# Altium footprint library JMPKG.PcbLib: 337 footprints (part 15 of 22)
Each footprint in its own frame and in the unit in brackets; x right, y up, seen from the top. Pads: shape width x height; smd on the part's side, far side on the other; paste and mask are expansions set on the pad; w line width, h text height; cw(c..) or ccw(c..) is an arc to the next point about the centre after c.
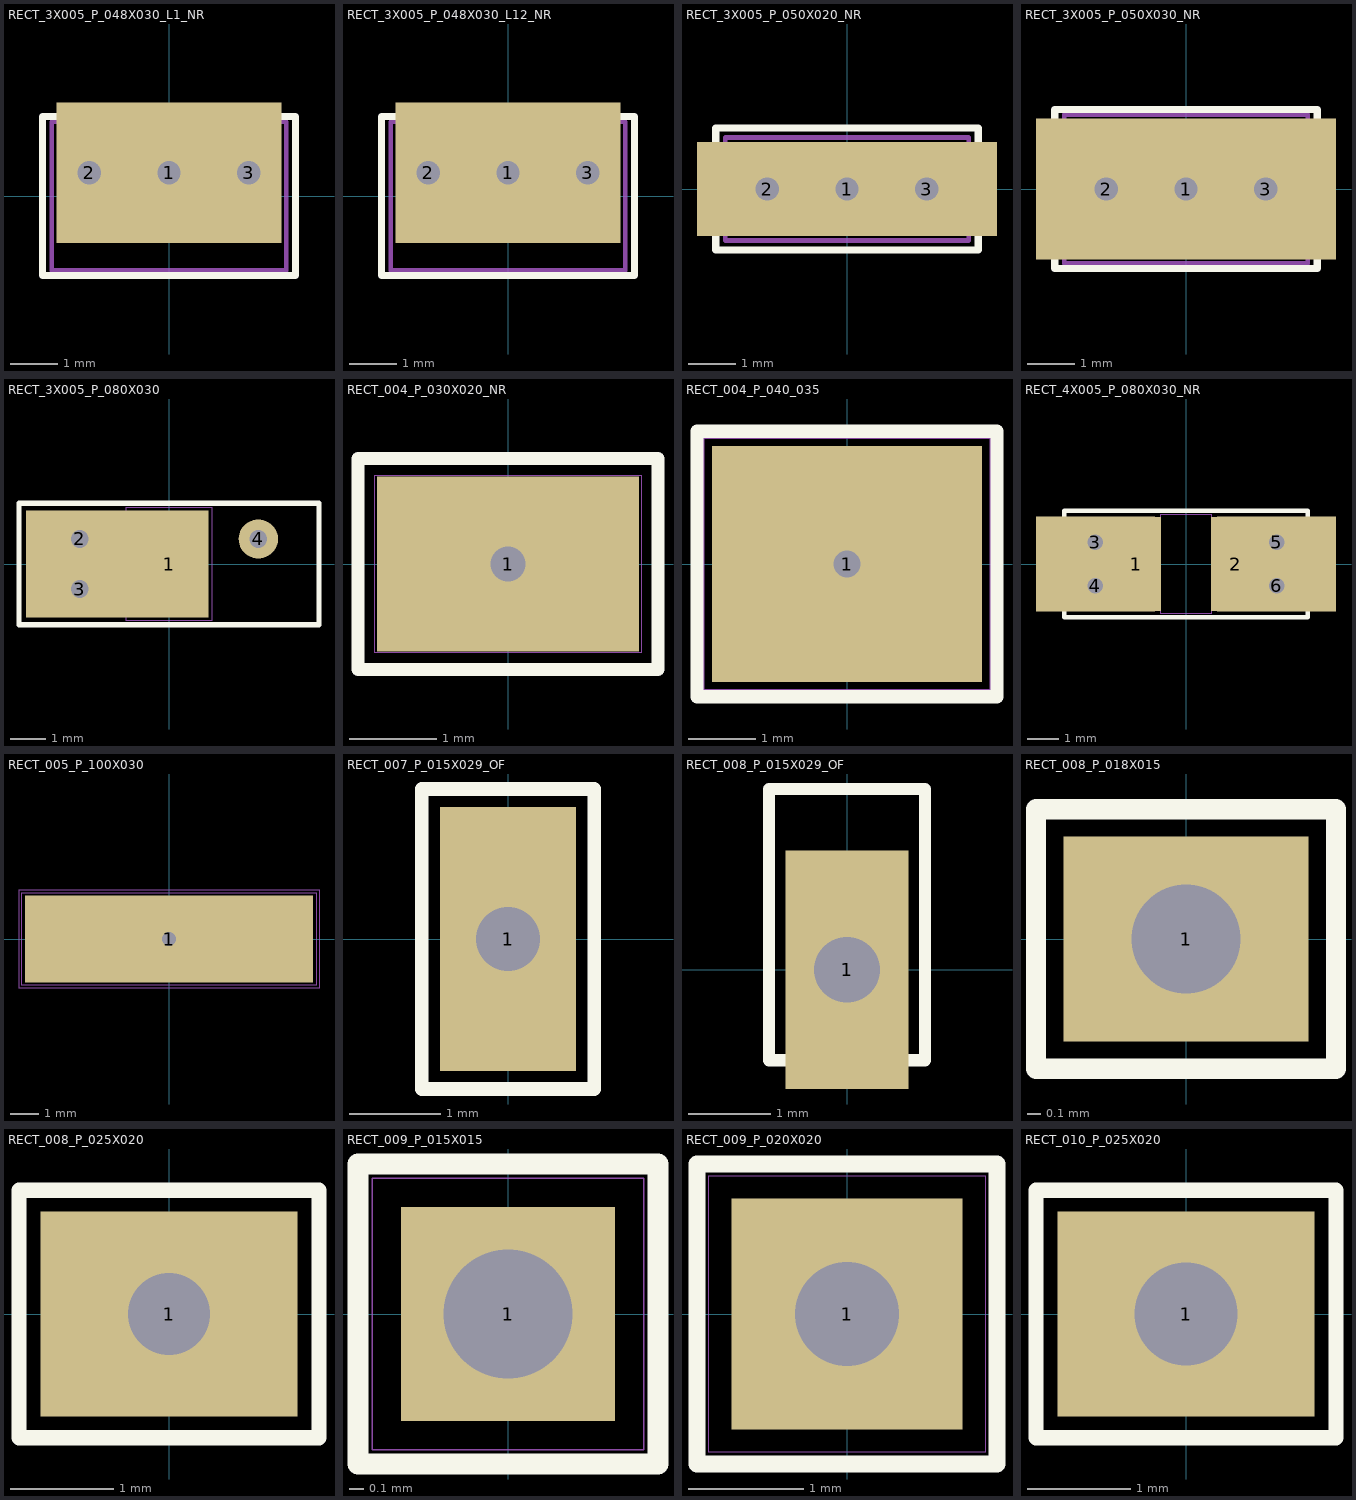
[diagram p14: the footprints below, top view; thin cyan lines are the x and y axes]

## RECT_3X005_P_048X030_L1_NR [mm]
pads (3):
  rect 2.2x3 / inner round 0 / far side round 1.1 hole 0.5 mask+0.05: 1(0,0.5)
  rect 1.4x3 / inner round 1.1 / far side round 1.1 hole 0.5 mask+0.05: 2(-1.7,0.5) 3(1.7,0.5)
Top Overlay:
  lines w0.15: -2.7,-1.7 2.7,-1.7 2.7,1.7 -2.7,1.7 -2.7,-1.7
Mechanical 15:
  lines w0.1: -2.5,-1.587 2.5,-1.587 2.5,1.587 -2.5,1.587 -2.5,-1.587
Mechanical 20:
  lines w0.1: -2.7,-1.7 2.7,-1.7 2.7,1.7 -2.7,1.7 -2.7,-1.7

## RECT_3X005_P_048X030_L12_NR [mm]
pads (3):
  rect 2.2x3 / inner round 0 / far side rect 2.2x3 hole 0.5 mask+0.05: 1(0,0.5)
  rect 1.4x3 / inner round 1.1 / far side rect 1.4x3 hole 0.5 mask+0.05: 2(-1.7,0.5) 3(1.7,0.5)
Top Overlay:
  lines w0.15: -2.7,-1.7 2.7,-1.7 2.7,1.7 -2.7,1.7 -2.7,-1.7
Mechanical 15:
  lines w0.1: -2.5,-1.587 2.5,-1.587 2.5,1.587 -2.5,1.587 -2.5,-1.587
Multi-Layer:
  text "Value" at -0.861,-1.175 h0.6
Mechanical 20:
  lines w0.1: -2.7,-1.7 2.7,-1.7 2.7,1.7 -2.7,1.7 -2.7,-1.7

## RECT_3X005_P_050X020_NR [mm]
pads (3):
  rrect0% 2x2 / inner round 0 / far side round 1.1 hole 0.5 mask+0.05: 1(0,0)
  rect 3x2 / inner round 1.1 / far side round 1.1 hole 0.5 mask+0.05: 2(-1.7,0) 3(1.7,0)
Top Overlay:
  lines w0.15: -2.8,-1.3 2.8,-1.3 2.8,1.3 -2.8,1.3 -2.8,-1.3
Mechanical 15:
  lines w0.1: -2.6,-1.1 2.6,-1.1 2.6,1.1 -2.6,1.1 -2.6,-1.1
Multi-Layer:
  text "Value" at -0.861,-1.175 h0.6
Mechanical 20:
  lines w0.1: -2.8,-1.3 2.8,-1.3 2.8,1.3 -2.8,1.3 -2.8,-1.3

## RECT_3X005_P_050X030_NR [mm]
pads (3):
  rect 2.2x3 / inner round 0 / far side round 1.1 hole 0.5 mask+0.05: 1(0,0)
  rrect0% 3x3 / inner round 1.1 / far side round 1.1 hole 0.5 mask+0.05: 2(-1.7,0) 3(1.7,0)
Top Overlay:
  lines w0.15: -2.8,-1.7 2.8,-1.7 2.8,1.7 -2.8,1.7 -2.8,-1.7
Mechanical 15:
  lines w0.1: -2.6,-1.587 2.6,-1.587 2.6,1.587 -2.6,1.587 -2.6,-1.587
Mechanical 20:
  lines w0.1: -2.8,-1.7 2.8,-1.7 2.8,1.7 -2.8,1.7 -2.8,-1.7

## RECT_3X005_P_080X030 [mm]
pads (4):
  rect 2.2x3 smd mask+0.05: 1(0,0)
  rect 3x1.6 / inner round 1.1 / far side round 1.1 hole 0.5 mask-0.2: 2(-2.5,0.7) 3(-2.5,-0.7)
  round 1.1 hole 0.5 mask-0.2: 4(2.5,0.7)
Top Overlay:
  lines w0.15: -4.2,-1.7 4.2,-1.7 4.2,1.7 -4.2,1.7 -4.2,-1.7
Mechanical 15:
  lines w0.01: -1.2,-1.587 1.2,-1.587 1.2,1.587 -1.2,1.587 -1.2,-1.587
Mechanical 20:
  lines w0.01: -4.2,-1.7 4.2,-1.7 4.2,1.7 -4.2,1.7 -4.2,-1.7

## RECT_004_P_030X020_NR [mm]
pads (1):
  rect 3x2 / inner round 1 / far side round 1 hole 0.4 mask+0.05: 1(0,0)
Top Overlay:
  lines w0.15: -1.714,-1.206 1.714,-1.206 1.714,1.206 -1.714,1.206 -1.714,-1.206
Mechanical 15:
  lines w0.01: -1.524,-1.016 1.524,-1.016 1.524,1.016 -1.524,1.016 -1.524,-1.016
Multi-Layer:
  text "Value" at -0.816,-1.13 h0.6
Mechanical 20:
  lines w0.01: -1.714,-1.206 1.714,-1.206 1.714,1.206 -1.714,1.206 -1.714,-1.206

## RECT_004_P_040_035 [mm]
pads (1):
  rect 4x3.5 hole 0.4 mask+0.1: 1(0,0)
Top Overlay:
  lines w0.2: -2.222,-1.968 2.222,-1.968 2.222,1.968 -2.222,1.968 -2.222,-1.968
Mechanical 15:
  lines w0.1: -2.159,-1.905 2.159,-1.905 2.159,1.905 -2.159,1.905 -2.159,-1.905
Multi-Layer:
  text "Value" at -1.108,-1.25 h0.75

## RECT_4X005_P_080X030_NR [mm]
pads (6):
  rect 1.6x3 smd mask+0.05: 1(-1.6,0) 2(1.6,0)
  rect 3.8x1.65 / inner round 1.1 / far side round 1.1 hole 0.5 mask-0.25: 3(-2.9,0.7) 4(-2.9,-0.7) 5(2.9,0.7) 6(2.9,-0.7)
Top Overlay:
  lines w0.15: -3.9,-1.7 3.9,-1.7 3.9,1.7 -3.9,1.7 -3.9,-1.7
Mechanical 15:
  lines w0.01: -0.8,-1.587 0.8,-1.587 0.8,1.587 -0.8,1.587 -0.8,-1.587
Mechanical 20:
  lines w0.01: -3.9,-1.7 3.9,-1.7 3.9,1.7 -3.9,1.7 -3.9,-1.7

## RECT_005_P_100X030 [mm]
pads (1):
  rect 10x3 hole 0.5 mask+0.05: 1(0,0)
Mechanical 15:
  circle w0.01: c0,0 r0.25
  lines w0.01: -5.1,-1.6 5.1,-1.6 5.1,1.6 -5.1,1.6 -5.1,-1.6
Mechanical 16:
  circle w0.01: c0,0 r0.25
  lines w0.01: -5.1,-1.6 5.1,-1.6 5.1,1.6 -5.1,1.6 -5.1,-1.6
Multi-Layer:
  text "Value" at -1.19,0.57 h0.75
Mechanical 20:
  lines w0.01: -5.2,-1.7 5.2,-1.7 5.2,1.7 -5.2,1.7 -5.2,-1.7

## RECT_007_P_015X029_OF [mm]
pads (1):
  rect 1.5x2.9 / inner round 1.3 / far side round 1.3 hole 0.7 mask+0.05: 1(0,0)
Top Overlay:
  lines w0.15: -0.95,-1.65 0.95,-1.65 0.95,1.65 -0.95,1.65 -0.95,-1.65
Mechanical 15:
  circle w0.01: c0,0 r0.35
Mechanical 16:
  circle w0.01: c0,0 r0.35
Multi-Layer:
  text "Value" at -1.038,-0.475 h0.6
Mechanical 20:
  lines w0.01: -0.95,-1.65 0.95,-1.65 0.95,1.65 -0.95,1.65 -0.95,-1.65

## RECT_008_P_015X029_OF [mm]
pads (1):
  rect 1.5x2.9 / inner rect 1.5x2.9 / far side round 1.3 hole 0.8 mask+0.05: 1(0,0)
Top Overlay:
  lines w0.15: -0.95,-1.1 0.95,-1.1 0.95,2.2 -0.95,2.2 -0.95,-1.1
Mechanical 15:
  circle w0.01: c0,0 r0.4
Mechanical 16:
  circle w0.01: c0,0 r0.4
Multi-Layer:
  text "Value" at -1.038,-0.705 h0.6
Mechanical 20:
  lines w0.01: -0.95,-1.1 0.95,-1.1 0.95,2.2 -0.95,2.2 -0.95,-1.1

## RECT_008_P_018X015 [mm]
pads (1):
  rect 1.8x1.5 hole 0.8 mask+0.05: 1(0,0)
Top Overlay:
  lines w0.15: -1.1,-0.95 1.1,-0.95 1.1,0.95 -1.1,0.95 -1.1,-0.95
Mechanical 15:
  circle w0.01: c0,0 r0.4
Mechanical 16:
  circle w0.01: c0,0 r0.4
Multi-Layer:
  text "Value" at -0.888,-0.775 h0.6
Mechanical 20:
  lines w0.01: -1.1,-0.95 1.1,-0.95 1.1,0.95 -1.1,0.95 -1.1,-0.95

## RECT_008_P_025X020 [mm]
pads (1):
  rect 2.5x2 hole 0.8 mask+0.05: 1(0,0)
Top Overlay:
  lines w0.15: -1.46,-1.206 1.46,-1.206 1.46,1.206 -1.46,1.206 -1.46,-1.206
Mechanical 15:
  circle w0.01: c0,0 r0.4
Mechanical 16:
  circle w0.01: c0,0 r0.4
Multi-Layer:
  text "Value" at -0.943,0.645 h0.6
Mechanical 20:
  lines w0.01: -1.46,-1.206 1.46,-1.206 1.46,1.206 -1.46,1.206 -1.46,-1.206

## RECT_009_P_015X015 [mm]
pads (1):
  rect 1.5x1.5 hole 0.9 mask+0.05: 1(0,0)
Top Overlay:
  lines w0.15: -1.05,-1.05 1.05,-1.05 1.05,1.05 -1.05,1.05 -1.05,-1.05
Mechanical 15:
  lines w0.01: -0.95,-0.95 0.95,-0.95 0.95,0.95 -0.95,0.95 -0.95,-0.95
Drill Drawing:
  circle w0.01: c0,0 r0.45
Multi-Layer:
  text "Value" at -0.652,-1.08 h0.5
Mechanical 20:
  lines w0.01: -1.05,-1.05 1.05,-1.05 1.05,1.05 -1.05,1.05 -1.05,-1.05

## RECT_009_P_020X020 [mm]
pads (1):
  rect 2x2 hole 0.9 mask+0.05: 1(0,0)
L1-Top Layer:
  text "Value" at -0.988,-1.025 h0.6
Top Overlay:
  lines w0.15: -1.3,-1.3 1.3,-1.3 1.3,1.3 -1.3,1.3 -1.3,-1.3
Mechanical 15:
  lines w0.01: -1.2,-1.2 1.2,-1.2 1.2,1.2 -1.2,1.2 -1.2,-1.2
Drill Drawing:
  circle w0.01: c0,0 r0.45
Multi-Layer:
  text "Value" at -0.861,-0.559 h0.6
Mechanical 20:
  lines w0.01: -1.3,-1.3 1.3,-1.3 1.3,1.3 -1.3,1.3 -1.3,-1.3

## RECT_010_P_025X020 [mm]
pads (1):
  rect 2.5x2 hole 1 mask+0.05: 1(0,0)
Top Overlay:
  lines w0.15: -1.46,-1.206 1.46,-1.206 1.46,1.206 -1.46,1.206 -1.46,-1.206
Mechanical 15:
  circle w0.01: c0,0 r0.5
Mechanical 16:
  circle w0.01: c0,0 r0.5
Multi-Layer:
  text "Value" at -0.888,-0.775 h0.6
Mechanical 20:
  lines w0.01: -1.46,-1.206 1.46,-1.206 1.46,1.206 -1.46,1.206 -1.46,-1.206